# EAGLE library part MAX3221 (library texas-msp)
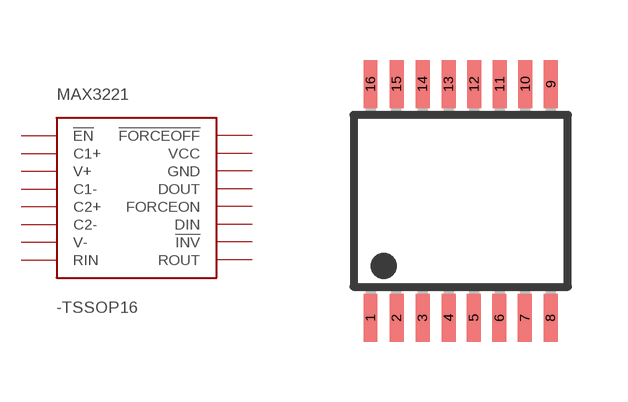
[diagram p1: symbol with the pads of TSSOP16; footprint TSSOP16]

Designator prefix -TSSOP16

## MAX3221-TSSOP16  [TSSOP16]
1  !EN
2  C1+
3  V+
4  C1-
5  C2+
6  C2-
7  V-
8  RIN
9  ROUT
10  !INV
11  DIN
12  FORCEON
13  DOUT
14  GND
15  VCC
16  !FORCEOFF

## Footprint TSSOP16 (pad centres in mm)
Thin Shrink Small Outline Package package type ST
smd 0.35 x 1.2: 1 -0.975,-2.925; 2 -0.325,-2.925; 3 0.325,-2.925; 4 0.975,-2.925; 5 1.605,-2.925; 6 2.245,-2.925; 7 2.885,-2.925; 8 3.525,-2.925; 9 3.535,2.925; 10 2.895,2.925; 11 2.255,2.925; 12 1.615,2.925; 13 0.975,2.925; 14 0.325,2.925; 15 -0.325,2.925; 16 -0.975,2.925